# Altium schematic symbol library V2SchLib.SchLib: 46 symbols (part 2 of 3)
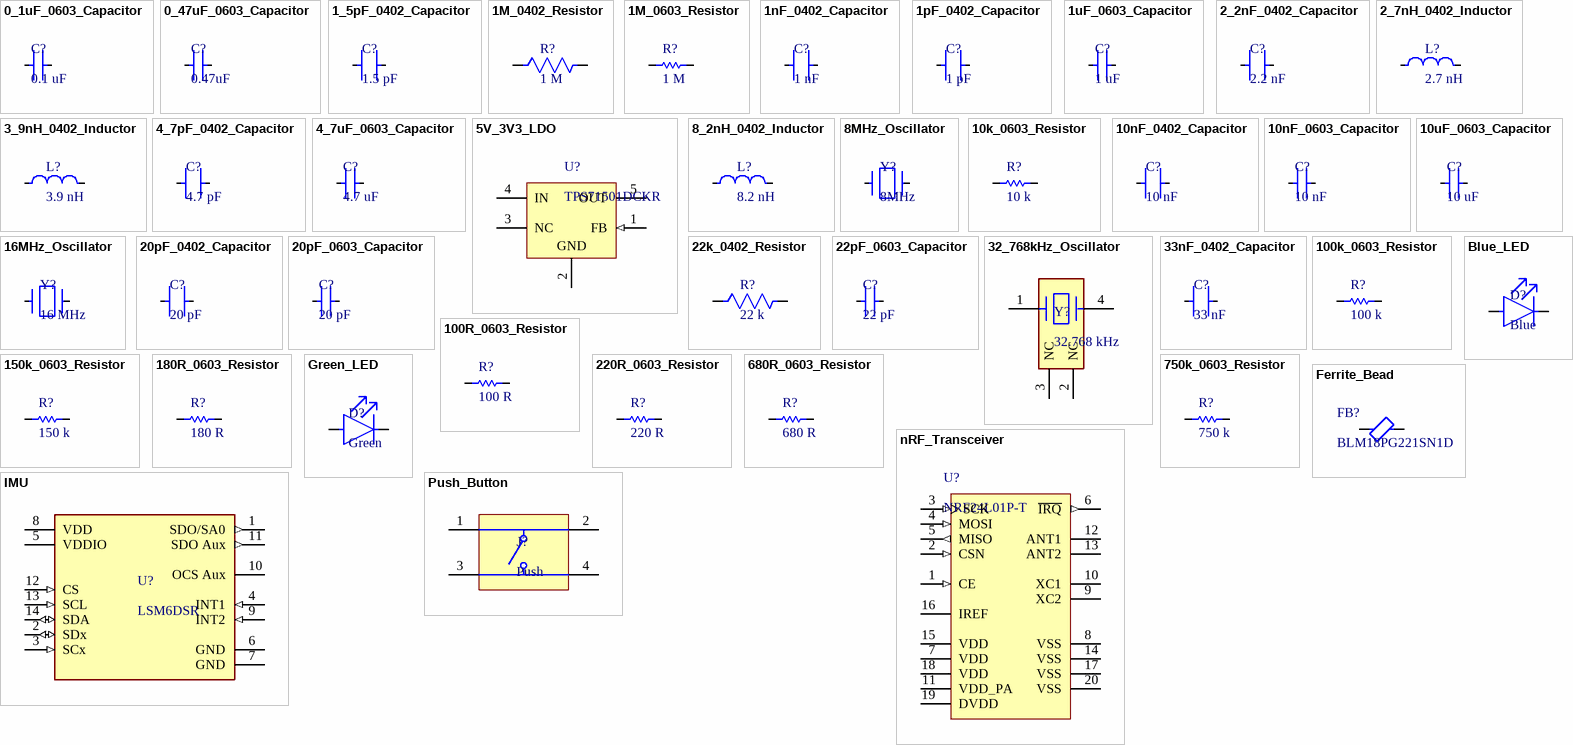
[diagram p2: symbols 0_1uF_0603_Capacitor to Push_Button]

## 16MHz_Oscillator
designator Y?, comment 16 MHz
Crystal 16MHz ±20ppm (Tol) ±30ppm (Stability) 18pF FUND 50Ohm 2-Pin Mini-CSMD T/R, ABM7-16.000MHZ-D2Y-T Abracon; Supplier: Avnet; Supplier Part Number: ABM7-16.000MHZ-D2Y; Manufacturer: Abracon; Manufacturer Part Number: ABM7-16.000MHZ-D2Y-T; RoHS: Yes; Category: Crystals; Stock: 54000; Pricing: 1000=0.385, 2000=0.3775, 4000=0.37, 6000=0.35525, 8000=0.3479, 10000=0.3336, 100000=0.2992 (USD); ComponentLink1URL: https://datasheet.ciiva.com/5788/abm7-5788054.pdf?src-supplier=Farnell; ComponentLink1Description: https://datasheet.ciiva.com/5788/abm7-5788054.pdf?src-supplier=Farnell; Supplier 1: Digikey; Supplier Part Number 1: 535-9840-1-ND
footprint 16MHz_Oscillator
pins: 1, 2

## 20pF_0402_Capacitor
designator C?, comment 20 pF
Ceramic Capacitor, Multilayer, Ceramic, 50V, 5% +Tol, 5% -Tol, C0G, 30% TC, 0.00002uF, Surface Mount, 0402, GJM1555C1H200JB01D; Manufacturer: Murata; Value: 20pF; Multilayer: Yes; Supplier: Digikey; Supplier Part Number: 490-3120-1-ND; Manufacturer Part Number: GJM1555C1H200JB01D; RoHS: Yes; Category: Ceramic Capacitors; Stock: 56145; Pricing: 1=0.17, 10=0.116, 50=0.0694, 100=0.0546, 500=0.0403, 1000=0.03337, 2500=0.03106, 5000=0.02841 (USD); Mounting Technology: Surface Mount; Pins: 2; Dielectric Material: Ceramic; Package Shape: Rectangular; Case/Package: 0402; Terminal Finish: Nickel; Min Operating Temperature: -55°C; Max Operating Temperature: 125°C; JESD-609 Code: e3; Capacitor Type: Ceramic; Tolerance  (fill in as +-): 5%; Package Style: SMTMeter; Packaging: Tape and Reel; Tolerance (fill in as +-): 5%; Rated DC Voltage (URdc): 50V; Temperature Characteristics Code: C0G; Termination: Wraparound; Length: 1mm; Width: 0.5mm; Height: 0.5mm; Reach SVHC Compliant: Yes; RoHS Compliant: Yes; ComponentLink1URL: https://datasheet.ciiva.com:443/pdfs/VipMasterIC/IC/MURE/MURE-S-A0004383799/MURE-S-A0004383921-1.pdf?src-supplier=IHS+Markit; ComponentLink1Description: https://datasheet.ciiva.com:443/pdfs/VipMasterIC/IC/MURE/MURE-S-A0004383799/MURE-S-A0004383921-1.pdf?src-supplier=IHS+Markit; ComponentLink2URL: https://datasheet.ciiva.com/165/product-165055.pdf?src-supplier=Digikey; ComponentLink2Description: https://datasheet.ciiva.com/165/product-165055.pdf?src-supplier=Digikey; ComponentLink3URL: https://datasheet.ciiva.com/29540/partnumbering-e-01-29540584.pdf?src-supplier=Digikey; ComponentLink3Description: https://datasheet.ciiva.com/29540/partnumbering-e-01-29540584.pdf?src-supplier=Digikey; ComponentLink4URL: https://datasheet.ciiva.com/29540/partnumbering-e-01-29540583.pdf?src-supplier=Digikey; ComponentLink4Description: https://datasheet.ciiva.com/29540/partnumbering-e-01-29540583.pdf?src-supplier=Digikey; Supplier 1: Digikey; Supplier Part Number 1: 490-3120-1-ND
footprint 20pF_0402_Capacitor
pins: 1, 2

## 20pF_0603_Capacitor
designator C?, comment 20 pF
Ceramic Capacitor, Multilayer, Ceramic, 50V, 5% +Tol, 5% -Tol, C0G, -/+30ppm/Cel TC, 0.00002uF, Surface Mount, 0603, CC0603JRNPO9BN200; Manufacturer: Yageo; Value: 20pF; Multilayer: Yes; Supplier: Digikey; Supplier Part Number: 311-1424-1-ND; Manufacturer Part Number: CC0603JRNPO9BN200; RoHS: Yes; Category: Ceramic Capacitors; Stock: 218320; Pricing: 1=0.1, 10=0.038, 50=0.0218, 100=0.017, 500=0.01276, 1000=0.01003 (USD); Mounting Technology: Surface Mount; Pins: 2; Dielectric Material: Ceramic; Case/Package: 0603; Terminal Finish: Nickel; Package Shape: Rectangular; Min Operating Temperature: -55°C; Max Operating Temperature: 125°C; JESD-609 Code: e3; Capacitor Type: Ceramic; Tolerance  (fill in as +-): 5%; Packaging: Tape and Reel; Tolerance (fill in as +-): 5%; Rated DC Voltage (URdc): 50V; Temperature Characteristics Code: C0G; Termination: Wraparound; Reach SVHC Compliant: Yes; RoHS Compliant: Yes; ComponentLink1URL: https://datasheet.ciiva.com:443/pdfs/VipMasterIC/IC/YAGO/YAGOS02763/YAGOS02763-1.pdf?src-supplier=IHS+Markit; ComponentLink1Description: https://datasheet.ciiva.com:443/pdfs/VipMasterIC/IC/YAGO/YAGOS02763/YAGOS02763-1.pdf?src-supplier=IHS+Markit; ComponentLink2URL: https://datasheet.ciiva.com/176/mlccorderingcode-176538.pdf?src-supplier=Digikey; ComponentLink2Description: https://datasheet.ciiva.com/176/mlccorderingcode-176538.pdf?src-supplier=Digikey; ComponentLink3URL: https://datasheet.ciiva.com/176/mlccorderingcode-176539.pdf?src-supplier=Digikey; ComponentLink3Description: https://datasheet.ciiva.com/176/mlccorderingcode-176539.pdf?src-supplier=Digikey; ComponentLink4URL: https://datasheet.ciiva.com/176/mlccorderingcode-176540.pdf?src-supplier=Digikey; ComponentLink4Description: https://datasheet.ciiva.com/176/mlccorderingcode-176540.pdf?src-supplier=Digikey; ComponentLink5URL: https://datasheet.ciiva.com/7978/1132289-7978134.pdf?src-supplier=Element14; ComponentLink5Description: https://datasheet.ciiva.com/7978/1132289-7978134.pdf?src-supplier=Element14; Supplier 1: Digikey; Supplier Part Number 1: 311-1424-1-ND
footprint 20pF_0603_Capacitor
pins: 1, 2

## 22k_0402_Resistor
designator R?, comment 22 k
Fixed Resistor, Metal Glaze/thick Film, 0.063W, 22000ohm, 50V, 5% +/-Tol, 200ppm/Cel, Surface Mount, 0402, CRCW040222K0JNED; Manufacturer: Vishay Dale; Power: 63mW; Rated Temperature: 70°C; Value: 22kR; Temperature Coefficient: 200ppm/°C; Package Height: 0.35mm; Package Length: 1mm; Package Width: 0.5mm; Reference Standard: AEC-Q200; Supplier: Digikey; Supplier Part Number: 541-22KJCT-ND; Manufacturer Part Number: CRCW040222K0JNED; RoHS: Yes; Category: Chip SMD Resistors; Stock: 10421; Pricing: 1=0.1, 10=0.024, 50=0.0152, 100=0.0127, 500=0.00866, 1000=0.00746, 5000=0.00542 (USD); Mounting Technology: Surface Mount; Pins: 2; Package Shape: Rectangular; Case/Package: 0402; Terminal Finish: Nickel; Min Operating Temperature: -55°C; Max Operating Temperature: 155°C; Tolerance: 5%; JESD-609 Code: e3; Resistor Type: FIXED RESISTOR; Construction: Chip; Package Style: SMTMeter; Packaging: Tape and Reel; Technology: METAL GLAZE/THICK FILM; Termination: Wraparound; Working Voltage: 50V; Reach SVHC Compliant: Yes; RoHS Compliant: Yes; ComponentLink1URL: https://datasheet.ciiva.com:443/pdfs/VipMasterIC/IC/VISH/VISH-S-A0007266705/VISH-S-A0007266705-1.pdf?src-supplier=IHS+Markit; ComponentLink1Description: https://datasheet.ciiva.com:443/pdfs/VipMasterIC/IC/VISH/VISH-S-A0007266705/VISH-S-A0007266705-1.pdf?src-supplier=IHS+Markit; ComponentLink2URL: https://datasheet.ciiva.com/2462/dcrcwe3-2462082.pdf?src-supplier=Digikey; ComponentLink2Description: https://datasheet.ciiva.com/2462/dcrcwe3-2462082.pdf?src-supplier=Digikey; ComponentLink3URL: https://datasheet.ciiva.com/2462/dcrcwe3-2462083.pdf?src-supplier=Digikey; ComponentLink3Description: https://datasheet.ciiva.com/2462/dcrcwe3-2462083.pdf?src-supplier=Digikey; ComponentLink4URL: https://datasheet.ciiva.com/2462/dcrcwe3-2462084.pdf?src-supplier=Digikey; ComponentLink4Description: https://datasheet.ciiva.com/2462/dcrcwe3-2462084.pdf?src-supplier=Digikey; ComponentLink5URL: https://datasheet.ciiva.com/3256/dcrcwe3-3256245.pdf?src-supplier=Avnet; ComponentLink5Description: https://datasheet.ciiva.com/3256/dcrcwe3-3256245.pdf?src-supplier=Avnet; ComponentLink6URL: https://datasheet.ciiva.com/16776/70201119-16776940.pdf?src-supplier=Allied+Electronics; ComponentLink6Description: https://datasheet.ciiva.com/16776/70201119-16776940.pdf?src-supplier=Allied+Electronics; ComponentLink7URL: https://datasheet.ciiva.com/22872/70201119-22872138.pdf?src-supplier=Allied+Electronics; ComponentLink7Description: https://datasheet.ciiva.com/22872/70201119-22872138.pdf?src-supplier=Allied+Electronics; Supplier 1: Mouser; Supplier Part Number 1: 71-CRCW0402J-22K-E3
footprint 22k_0402_Resistor
pins: 1, 2

## 22pF_0603_Capacitor
designator C?, comment 22 pF
Ceramic Capacitor, Multilayer, Ceramic, 100V, 5% +Tol, 5% -Tol, C0G, 30ppm/Cel TC, 0.000022uF, Surface Mount, 0603, GCM1885C2A220JA16D; Manufacturer: Murata; Value: 22pF; Multilayer: Yes; Reference Standard: AEC-Q200; Supplier: Digikey; Supplier Part Number: 490-4942-1-ND; Manufacturer Part Number: GCM1885C2A220JA16D; RoHS: Yes; Category: Ceramic Capacitors; Stock: 113473; Pricing: 1=0.11, 10=0.074, 50=0.0424, 100=0.0329, 500=0.02476, 1000=0.01946 (USD); Mounting Technology: Surface Mount; Pins: 2; Dielectric Material: Ceramic; Package Shape: Rectangular; Case/Package: 0603; Terminal Finish: Nickel; Min Operating Temperature: -55°C; Max Operating Temperature: 125°C; JESD-609 Code: e3; Capacitor Type: Ceramic; Tolerance  (fill in as +-): 5%; Package Style: SMTMeter; Packaging: Tape and Reel; Tolerance (fill in as +-): 5%; Rated DC Voltage (URdc): 100V; Temperature Characteristics Code: C0G; Termination: Wraparound; Length: 1.6mm; Width: 0.8mm; Height: 0.9mm; Reach SVHC Compliant: Yes; RoHS Compliant: Yes; ComponentLink1URL: https://datasheet.ciiva.com:443/pdfs/VipMasterIC/IC/MURE/MURE-S-A0004365318/MURE-S-A0004370424-1.pdf?src-supplier=IHS+Markit; ComponentLink1Description: https://datasheet.ciiva.com:443/pdfs/VipMasterIC/IC/MURE/MURE-S-A0004365318/MURE-S-A0004370424-1.pdf?src-supplier=IHS+Markit; ComponentLink2URL: https://datasheet.ciiva.com/133/product-133318.pdf?src-supplier=Digikey; ComponentLink2Description: https://datasheet.ciiva.com/133/product-133318.pdf?src-supplier=Digikey; ComponentLink3URL: https://datasheet.ciiva.com/133/product-133319.pdf?src-supplier=Digikey; ComponentLink3Description: https://datasheet.ciiva.com/133/product-133319.pdf?src-supplier=Digikey; ComponentLink4URL: https://datasheet.ciiva.com/133/product-133320.pdf?src-supplier=Digikey; ComponentLink4Description: https://datasheet.ciiva.com/133/product-133320.pdf?src-supplier=Digikey; Supplier 1: Digikey; Supplier Part Number 1: 490-4942-1-ND
footprint 22pF_0603_Capacitor
pins: 1, 2

## 32_768kHz_Oscillator
designator Y?, comment 32.768 kHz
Parallel - Fundamental Quartz Crystal, 0.032768MHz Nom, ABS25-32.768KHZ-T; Manufacturer: Abracon; Aging: 5 PPM/FIRST YEAR; Drive Level: 1uW; Frequency Tolerance: 20ppm; Load Capacitance: 12.5pF; Operating Frequency-Nom: 32.768; ESR: 50kR; Additional Feature: TAPE AND REEL; Supplier: Digikey; Supplier Part Number: 535-9166-1-ND; Manufacturer Part Number: ABS25-32.768KHZ-T; RoHS: Yes; Category: Crystals; Stock: 334703; Pricing: 1=0.5, 10=0.418, 50=0.3764, 100=0.3346, 500=0.3179, 1000=0.26771 (USD); Mounting Technology: Surface Mount; Terminal Finish: Tin; Min Operating Temperature: -40°C; Max Operating Temperature: 85°C; Crystal/Resonator Type: PARALLEL - FUNDAMENTAL; JESD-609 Code: e2; RoHS Compliant: Yes; Reach SVHC Compliant: No; ComponentLink1URL: https://datasheet.ciiva.com:443/pdfs/VipMasterIC/IC/ABRC/ABRC-S-A0006623177/ABRC-S-A0006623177-1.pdf?src-supplier=IHS+Markit; ComponentLink1Description: https://datasheet.ciiva.com:443/pdfs/VipMasterIC/IC/ABRC/ABRC-S-A0006623177/ABRC-S-A0006623177-1.pdf?src-supplier=IHS+Markit; Supplier 1: Digikey; Supplier Part Number 1: 535-9166-1-ND
footprint 32_768MHz_Oscillator
pins: 1, 2 NC, 3 NC, 4

## 33nF_0402_Capacitor
designator C?, comment 33 nF
Ceramic Capacitor, Multilayer, Ceramic, 25V, 10% +Tol, 10% -Tol, X7R, 15% TC, 0.033uF, Surface Mount, 0402, GRM155R71E333KA88D; Manufacturer: Murata; Value: 33nF; Multilayer: Yes; Supplier: Digikey; Supplier Part Number: 490-3253-1-ND; Manufacturer Part Number: GRM155R71E333KA88D; RoHS: Yes; Category: Ceramic Capacitors; Stock: 395671; Pricing: 1=0.1, 10=0.059, 50=0.034, 100=0.0263, 500=0.01982, 1000=0.01558, 2500=0.01416, 5000=0.01303 (USD); Mounting Technology: Surface Mount; Pins: 2; Dielectric Material: Ceramic; Package Shape: Rectangular; Case/Package: 0402; Terminal Finish: Nickel; Min Operating Temperature: -55°C; Max Operating Temperature: 125°C; Capacitor Type: Ceramic; JESD-609 Code: e3; Tolerance  (fill in as +-): 10%; Package Style: SMTMeter; Packaging: Tape and Reel; Tolerance (fill in as +-): 10%; Rated DC Voltage (URdc): 25V; Temperature Characteristics Code: X7R; Termination: Wraparound; Length: 1mm; Width: 0.5mm; Height: 0.5mm; Reach SVHC Compliant: Yes; RoHS Compliant: Yes; ComponentLink1URL: https://datasheet.ciiva.com:443/pdfs/VipMasterIC/IC/MURE/MURE-S-A0004362469/MURE-S-A0004364704-1.pdf?src-supplier=IHS+Markit; ComponentLink1Description: https://datasheet.ciiva.com:443/pdfs/VipMasterIC/IC/MURE/MURE-S-A0004362469/MURE-S-A0004364704-1.pdf?src-supplier=IHS+Markit; ComponentLink2URL: https://datasheet.ciiva.com/131/product-131792.pdf?src-supplier=Digikey; ComponentLink2Description: https://datasheet.ciiva.com/131/product-131792.pdf?src-supplier=Digikey; ComponentLink3URL: https://datasheet.ciiva.com/18184/getdatasheetpartid-153135-18184704.pdf?src-supplier=Verical; ComponentLink3Description: https://datasheet.ciiva.com/18184/getdatasheetpartid-153135-18184704.pdf?src-supplier=Verical; ComponentLink4URL: https://datasheet.ciiva.com/7937/608985-7937622.pdf?src-supplier=Element14; ComponentLink4Description: https://datasheet.ciiva.com/7937/608985-7937622.pdf?src-supplier=Element14; ComponentLink5URL: https://datasheet.ciiva.com/131/grm155r71e333ka88-01-131793.pdf?src-supplier=Digikey; ComponentLink5Description: https://datasheet.ciiva.com/131/grm155r71e333ka88-01-131793.pdf?src-supplier=Digikey; ComponentLink6URL: https://datasheet.ciiva.com/131/grm155r71e333ka88-01-131794.pdf?src-supplier=Digikey; ComponentLink6Description: https://datasheet.ciiva.com/131/grm155r71e333ka88-01-131794.pdf?src-supplier=Digikey; ComponentLink7URL: https://datasheet.ciiva.com/2989/product-2989391.pdf?src-supplier=Avnet; ComponentLink7Description: https://datasheet.ciiva.com/2989/product-2989391.pdf?src-supplier=Avnet; ComponentLink8URL: https://datasheet.ciiva.com/2989/product-2989392.pdf?src-supplier=Avnet; ComponentLink8Description: https://datasheet.ciiva.com/2989/product-2989392.pdf?src-supplier=Avnet; ComponentLink9URL: https://datasheet.ciiva.com/14103/grmseries-highdielectrictype-eng-14103753.pdf?src-supplier=Distrelec; ComponentLink9Description: https://datasheet.ciiva.com/14103/grmseries-highdielectrictype-eng-14103753.pdf?src-supplier=Distrelec; ComponentLink10URL: https://datasheet.ciiva.com/16208/product-16208394.pdf?src-supplier=Future+Electronics; ComponentLink10Description: https://datasheet.ciiva.com/16208/product-16208394.pdf?src-supplier=Future+Electronics; Supplier 1: Digikey; Supplier Part Number 1: 490-3253-1-ND
footprint 33nF_0402_Capacitor (Chip Capacitor, 2-Leads, Body 1.00x0.50mm, IPC High Density)
pins: 1, 2

## 100k_0603_Resistor
designator R?, comment 100 k
Fixed Resistor, Metal Glaze/thick Film, 0.1W, 100000ohm, 75V, 1% +/-Tol, 100ppm/Cel, Surface Mount, 0603, AC0603FR-07100KL; Manufacturer: Yageo; Power: 100mW; Rated Temperature: 70°C; Value: 100kR; Temperature Coefficient: 100ppm/°C; Additional Feature: LASER TRIMMABLE; Package Height: 0.45mm; Package Length: 1.6mm; Package Width: 0.8mm; Reference Standard: AEC-Q200; Supplier: Digikey; Supplier Part Number: 311-100KLDCT-ND; Manufacturer Part Number: AC0603FR-07100KL; RoHS: Yes; Category: Chip SMD Resistors; Stock: 796898; Pricing: 1=0.1, 10=0.021, 50=0.013, 100=0.0108, 500=0.00734, 1000=0.00633 (USD); Mounting Technology: Surface Mount; Pins: 2; Case/Package: 0603; Terminal Finish: Nickel; Package Shape: Rectangular; Min Operating Temperature: -55°C; Max Operating Temperature: 155°C; Tolerance: 1%; JESD-609 Code: e3; Resistor Type: FIXED RESISTOR; Construction: Chip; Package Style: SMTMeter; Packaging: Tape and Reel; Technology: METAL GLAZE/THICK FILM; Termination: Wraparound; Working Voltage: 75V; Reach SVHC Compliant: Yes; RoHS Compliant: Yes; ComponentLink1URL: https://datasheet.ciiva.com:443/pdfs/VipMasterIC/IC/YAGO/YAGO-S-A0003597364/YAGO-S-A0003597364-1.pdf?src-supplier=IHS+Markit; ComponentLink1Description: https://datasheet.ciiva.com:443/pdfs/VipMasterIC/IC/YAGO/YAGO-S-A0003597364/YAGO-S-A0003597364-1.pdf?src-supplier=IHS+Markit; ComponentLink2URL: https://datasheet.ciiva.com/26862/getdatasheetpartid-715379-26862460.pdf?src-supplier=Verical; ComponentLink2Description: https://datasheet.ciiva.com/26862/getdatasheetpartid-715379-26862460.pdf?src-supplier=Verical; ComponentLink3URL: https://datasheet.ciiva.com/5562/pyu-ac-51-rohs-l-2-5562536.pdf?src-supplier=Mouser; ComponentLink3Description: https://datasheet.ciiva.com/5562/pyu-ac-51-rohs-l-2-5562536.pdf?src-supplier=Mouser; Supplier 1: Digikey; Supplier Part Number 1: 311-100KLDCT-ND
footprint 100k_0603_Resistor
pins: 1, 2

## 100R_0603_Resistor
designator R?, comment 100 R
Fixed Resistor, Metal Glaze/thick Film, 0.1W, 100ohm, 75V, 1% +/-Tol, 100ppm/Cel, Surface Mount, 0603; Manufacturer: Vishay Dale; Manufacturer Part Number: CRCW0603100RFKEA; Power: 100mW; Rated Temperature: 70°C; Value: 100R; Temperature Coefficient: 100ppm/°C; Package Height: 0.45mm; Package Length: 1.55mm; Package Width: 0.85mm; Reference Standard: AEC-Q200; Supplier: Digikey; Supplier Part Number: 541-100HCT-ND; RoHS: Yes; Category: Chip SMD Resistors; Stock: 468740; Pricing: 1=0.1, 10=0.026, 50=0.0166, 100=0.014, 500=0.00954, 1000=0.00824 (USD); Mounting Technology: Surface Mount; Pins: 2; Case/Package: 0603; Terminal Finish: Nickel; Package Shape: Rectangular; Min Operating Temperature: -55°C; Max Operating Temperature: 155°C; Tolerance: 1%; Resistor Type: FIXED RESISTOR; Packaging: Tape and Reel; Technology: METAL GLAZE/THICK FILM; Termination: Wraparound; Working Voltage: 75V; JESD-609 Code: e3; Construction: Chip; Package Style: SMTMeter; Reach SVHC Compliant: Yes; RoHS Compliant: Yes; ComponentLink1URL: https://datasheet.ciiva.com:443/pdfs/VipMasterIC/IC/VISH/VISH-S-A0007266705/VISH-S-A0007266705-1.pdf?src-supplier=IHS+Markit; ComponentLink1Description: https://datasheet.ciiva.com:443/pdfs/VipMasterIC/IC/VISH/VISH-S-A0007266705/VISH-S-A0007266705-1.pdf?src-supplier=IHS+Markit; ComponentLink2URL: https://datasheet.ciiva.com/2465/dcrcwe3-2465543.pdf?src-supplier=Digikey; ComponentLink2Description: https://datasheet.ciiva.com/2465/dcrcwe3-2465543.pdf?src-supplier=Digikey; ComponentLink3URL: https://datasheet.ciiva.com/2465/dcrcwe3-2465544.pdf?src-supplier=Digikey; ComponentLink3Description: https://datasheet.ciiva.com/2465/dcrcwe3-2465544.pdf?src-supplier=Digikey; ComponentLink4URL: https://datasheet.ciiva.com/2465/dcrcwe3-2465545.pdf?src-supplier=Digikey; ComponentLink4Description: https://datasheet.ciiva.com/2465/dcrcwe3-2465545.pdf?src-supplier=Digikey; ComponentLink5URL: https://datasheet.ciiva.com/26316/fld-crcw-e3-data-en-26316566.pdf?src-supplier=Distrelec; ComponentLink5Description: https://datasheet.ciiva.com/26316/fld-crcw-e3-data-en-26316566.pdf?src-supplier=Distrelec; ComponentLink6URL: https://datasheet.ciiva.com/5550/dcrcwe3-109170-5550286.pdf?src-supplier=Mouser; ComponentLink6Description: https://datasheet.ciiva.com/5550/dcrcwe3-109170-5550286.pdf?src-supplier=Mouser; ComponentLink7URL: https://datasheet.ciiva.com/16721/70201119-16721486.pdf?src-supplier=Allied+Electronics; ComponentLink7Description: https://datasheet.ciiva.com/16721/70201119-16721486.pdf?src-supplier=Allied+Electronics; ComponentLink8URL: https://datasheet.ciiva.com/16787/70201119-16787964.pdf?src-supplier=Allied+Electronics; ComponentLink8Description: https://datasheet.ciiva.com/16787/70201119-16787964.pdf?src-supplier=Allied+Electronics; ComponentLink9URL: https://datasheet.ciiva.com/22666/1720486-22666207.pdf?src-supplier=Element14; ComponentLink9Description: https://datasheet.ciiva.com/22666/1720486-22666207.pdf?src-supplier=Element14; ComponentLink10URL: https://datasheet.ciiva.com/22673/1697337-22673066.pdf?src-supplier=Element14; ComponentLink10Description: https://datasheet.ciiva.com/22673/1697337-22673066.pdf?src-supplier=Element14; ComponentLink11URL: https://datasheet.ciiva.com/16199/dcrcwe3-16199102.pdf?src-supplier=Future+Electronics; ComponentLink11Description: https://datasheet.ciiva.com/16199/dcrcwe3-16199102.pdf?src-supplier=Future+Electronics; Supplier 1: Digikey; Supplier Part Number 1: 541-100HCT-ND; ComponentLink12URL: https://datasheet.ciiva.com:443/pdfs/VipMasterIC/IC/PANA/PANA-S-A0009648211/PANA-S-A0009648211-1.pdf?src-supplier=IHS+Markit; ComponentLink12Description: https://datasheet.ciiva.com:443/pdfs/VipMasterIC/IC/PANA/PANA-S-A0009648211/PANA-S-A0009648211-1.pdf?src-supplier=IHS+Markit; ComponentLink13URL: https://datasheet.ciiva.com/11810/0900766b812cb812-11810638.pdf?src-supplier=Rs; ComponentLink13Description: https://datasheet.ciiva.com/11810/0900766b812cb812-11810638.pdf?src-supplier=Rs; ComponentLink14URL: https://datasheet.ciiva.com/6138/1790600-6138936.pdf?src-supplier=Farnell; ComponentLink14Description: https://datasheet.ciiva.com/6138/1790600-6138936.pdf?src-supplier=Farnell; ComponentLink15URL: https://datasheet.ciiva.com/9184/aoa0000ce4-9184543.pdf?src-supplier=Avnet; ComponentLink15Description: https://datasheet.ciiva.com/9184/aoa0000ce4-9184543.pdf?src-supplier=Avnet; ComponentLink16URL: https://datasheet.ciiva.com/48426/erjp-series-eng-tds-48426798.pdf?src-supplier=Distrelec; ComponentLink16Description: https://datasheet.ciiva.com/48426/erjp-series-eng-tds-48426798.pdf?src-supplier=Distrelec; ComponentLink17URL: https://datasheet.ciiva.com/24066/aoa0000ce4-64075-24066487.pdf?src-supplier=Mouser; ComponentLink17Description: https://datasheet.ciiva.com/24066/aoa0000ce4-64075-24066487.pdf?src-supplier=Mouser; ComponentLink18URL: https://datasheet.ciiva.com/7886/1790600-7886853.pdf?src-supplier=Element14; ComponentLink18Description: https://datasheet.ciiva.com/7886/1790600-7886853.pdf?src-supplier=Element14; ComponentLink19URL: https://datasheet.ciiva.com/7886/1790600-7886854.pdf?src-supplier=Element14; ComponentLink19Description: https://datasheet.ciiva.com/7886/1790600-7886854.pdf?src-supplier=Element14
footprint 100R_0603_Resistor (Chip Resistor, 2-Leads, Body 1.65x0.95mm, IPC High Density)
pins: 1, 2

## 150k_0603_Resistor
designator R?, comment 150 k
Fixed Resistor, Metal Glaze/thick Film, 0.1W, 150000ohm, 75V, 1% +/-Tol, 100ppm/Cel, Surface Mount, 0603, RC0603FR-07150KL; Manufacturer: Yageo; Power: 100mW; Rated Temperature: 70°C; Value: 150kR; Temperature Coefficient: 100ppm/°C; Additional Feature: LASER TRIMMABLE; Package Height: 0.45mm; Package Length: 1.6mm; Package Width: 0.8mm; Supplier: Digikey; Supplier Part Number: 311-150KHRCT-ND; Manufacturer Part Number: RC0603FR-07150KL; RoHS: Yes; Category: Chip SMD Resistors; Stock: 109674; Pricing: 1=0.1, 10=0.019, 50=0.0112, 100=0.0093, 500=0.00622, 1000=0.00532 (USD); Mounting Technology: Surface Mount; Pins: 2; Case/Package: 0603; Terminal Finish: Nickel; Package Shape: Rectangular; Min Operating Temperature: -55°C; Max Operating Temperature: 155°C; Tolerance: 1%; JESD-609 Code: e3; Resistor Type: FIXED RESISTOR; Packaging: Tape and Reel; Technology: METAL GLAZE/THICK FILM; Termination: Wraparound; Working Voltage: 75V; Construction: Chip; Package Style: SMTMeter; Reach SVHC Compliant: Yes; RoHS Compliant: Yes; ComponentLink1URL: https://datasheet.ciiva.com:443/pdfs/VipMasterIC/IC/YAGO/YAGO-S-A0008145938/YAGO-S-A0008145938-1.pdf?src-supplier=IHS+Markit; ComponentLink1Description: https://datasheet.ciiva.com:443/pdfs/VipMasterIC/IC/YAGO/YAGO-S-A0008145938/YAGO-S-A0008145938-1.pdf?src-supplier=IHS+Markit; ComponentLink2URL: https://datasheet.ciiva.com/46412/443971-46412843.pdf?src-supplier=Element14; ComponentLink2Description: https://datasheet.ciiva.com/46412/443971-46412843.pdf?src-supplier=Element14; ComponentLink3URL: https://datasheet.ciiva.com/46440/1868787-46440892.pdf?src-supplier=Element14; ComponentLink3Description: https://datasheet.ciiva.com/46440/1868787-46440892.pdf?src-supplier=Element14; ComponentLink4URL: https://datasheet.ciiva.com/7746/443971-7746254.pdf?src-supplier=Element14; ComponentLink4Description: https://datasheet.ciiva.com/7746/443971-7746254.pdf?src-supplier=Element14; ComponentLink5URL: https://datasheet.ciiva.com/7746/443971-7746255.pdf?src-supplier=Element14; ComponentLink5Description: https://datasheet.ciiva.com/7746/443971-7746255.pdf?src-supplier=Element14; ComponentLink6URL: https://datasheet.ciiva.com/2454/pyu-r-int-thick-7-2454078.pdf?src-supplier=Digikey; ComponentLink6Description: https://datasheet.ciiva.com/2454/pyu-r-int-thick-7-2454078.pdf?src-supplier=Digikey; ComponentLink7URL: https://datasheet.ciiva.com/2454/pyu-r-int-thick-7-2454079.pdf?src-supplier=Digikey; ComponentLink7Description: https://datasheet.ciiva.com/2454/pyu-r-int-thick-7-2454079.pdf?src-supplier=Digikey; ComponentLink8URL: https://datasheet.ciiva.com/2454/pyu-r-int-thick-7-2454080.pdf?src-supplier=Digikey; ComponentLink8Description: https://datasheet.ciiva.com/2454/pyu-r-int-thick-7-2454080.pdf?src-supplier=Digikey; ComponentLink9URL: https://datasheet.ciiva.com/15189/getdatasheetpartid-326478-15189611.pdf?src-supplier=Verical; ComponentLink9Description: https://datasheet.ciiva.com/15189/getdatasheetpartid-326478-15189611.pdf?src-supplier=Verical; Supplier 1: Digikey; Supplier Part Number 1: 311-150KHRCT-ND
footprint 150k_0603_Resistor
pins: 1, 2

## 180R_0603_Resistor
designator R?, comment 180 R
Fixed Resistor, Metal Glaze/thick Film, 0.1W, 180ohm, 75V, 1% +/-Tol, 100ppm/Cel, Surface Mount, 0603, ERJ-3EKF1800V; Manufacturer: Panasonic; Power: 100mW; Rated Temperature: 70°C; Value: 180R; Temperature Coefficient: 100ppm/°C; Package Height: 0.45mm; Package Length: 1.6mm; Package Width: 0.8mm; Reference Standard: AEC-Q200; Supplier: Digikey; Supplier Part Number: P180HCT-ND; Manufacturer Part Number: ERJ-3EKF1800V; RoHS: Yes; Category: Chip SMD Resistors; Stock: 114631; Pricing: 1=0.1, 10=0.03, 50=0.0194, 100=0.0163, 500=0.01132, 1000=0.0098 (USD); Mounting Technology: Surface Mount; Pins: 2; Package Shape: Rectangular; Case/Package: 0603; Terminal Finish: Nickel; Min Operating Temperature: -55°C; Max Operating Temperature: 155°C; Tolerance: 1%; JESD-609 Code: e3; Resistor Type: FIXED RESISTOR; Construction: Rectangular; Package Style: SMTMeter; Packaging: Tape and Reel; Technology: METAL GLAZE/THICK FILM; Termination: Wraparound; Working Voltage: 75V; Reach SVHC Compliant: Yes; RoHS Compliant: Yes; ComponentLink1URL: https://datasheet.ciiva.com:443/pdfs/VipMasterIC/IC/PANA/PANA-S-A0009889626/PANA-S-A0009889626-1.pdf?src-supplier=IHS+Markit; ComponentLink1Description: https://datasheet.ciiva.com:443/pdfs/VipMasterIC/IC/PANA/PANA-S-A0009889626/PANA-S-A0009889626-1.pdf?src-supplier=IHS+Markit; ComponentLink2URL: https://datasheet.ciiva.com/46444/1678782-46444812.pdf?src-supplier=Element14; ComponentLink2Description: https://datasheet.ciiva.com/46444/1678782-46444812.pdf?src-supplier=Element14; ComponentLink3URL: https://datasheet.ciiva.com/7909/aoa0000ce2-7909194.pdf?src-supplier=Element14; ComponentLink3Description: https://datasheet.ciiva.com/7909/aoa0000ce2-7909194.pdf?src-supplier=Element14; ComponentLink4URL: https://datasheet.ciiva.com/7909/426256-7909547.pdf?src-supplier=Element14; ComponentLink4Description: https://datasheet.ciiva.com/7909/426256-7909547.pdf?src-supplier=Element14; ComponentLink5URL: https://datasheet.ciiva.com/9184/aoa0000ce2-9184887.pdf?src-supplier=Avnet; ComponentLink5Description: https://datasheet.ciiva.com/9184/aoa0000ce2-9184887.pdf?src-supplier=Avnet; ComponentLink6URL: https://datasheet.ciiva.com/24159/aoa0000ce2-24159085.pdf?src-supplier=Mouser; ComponentLink6Description: https://datasheet.ciiva.com/24159/aoa0000ce2-24159085.pdf?src-supplier=Mouser; ComponentLink7URL: https://datasheet.ciiva.com/30264/aoa0000ce2-30264058.pdf?src-supplier=Onlinecomponents.com; ComponentLink7Description: https://datasheet.ciiva.com/30264/aoa0000ce2-30264058.pdf?src-supplier=Onlinecomponents.com; Supplier 1: Digikey; Supplier Part Number 1: P180HCT-ND
footprint 180R_0603_Resistor
pins: 1, 2

## 220R_0603_Resistor
designator R?, comment 220 R
Fixed Resistor, Metal Glaze/thick Film, 0.1W, 220ohm, 75V, 1% +/-Tol, 100ppm/Cel, Surface Mount, 0603, ERJ-3EKF2200V; Manufacturer: Panasonic; Power: 100mW; Rated Temperature: 70°C; Value: 220R; Temperature Coefficient: 100ppm/°C; Package Height: 0.45mm; Package Length: 1.6mm; Package Width: 0.8mm; Reference Standard: AEC-Q200; Supplier: Digikey; Supplier Part Number: P220HCT-ND; Manufacturer Part Number: ERJ-3EKF2200V; RoHS: Yes; Category: Chip SMD Resistors; Stock: 244259; Pricing: 1=0.1, 10=0.03, 50=0.0194, 100=0.0163, 500=0.01132, 1000=0.0098 (USD); Mounting Technology: Surface Mount; Pins: 2; Package Shape: Rectangular; Case/Package: 0603; Terminal Finish: Nickel; Min Operating Temperature: -55°C; Max Operating Temperature: 155°C; Tolerance: 1%; JESD-609 Code: e3; Resistor Type: FIXED RESISTOR; Construction: Rectangular; Package Style: SMTMeter; Packaging: Tape and Reel; Technology: METAL GLAZE/THICK FILM; Termination: Wraparound; Working Voltage: 75V; Reach SVHC Compliant: Yes; RoHS Compliant: Yes; ComponentLink1URL: https://datasheet.ciiva.com:443/pdfs/VipMasterIC/IC/PANA/PANA-S-A0009889626/PANA-S-A0009889626-1.pdf?src-supplier=IHS+Markit; ComponentLink1Description: https://datasheet.ciiva.com:443/pdfs/VipMasterIC/IC/PANA/PANA-S-A0009889626/PANA-S-A0009889626-1.pdf?src-supplier=IHS+Markit; ComponentLink2URL: https://datasheet.ciiva.com/6138/aoa0000ce2-6138702.pdf?src-supplier=Farnell; ComponentLink2Description: https://datasheet.ciiva.com/6138/aoa0000ce2-6138702.pdf?src-supplier=Farnell; ComponentLink3URL: https://datasheet.ciiva.com/9184/aoa0000ce2-9184299.pdf?src-supplier=Avnet; ComponentLink3Description: https://datasheet.ciiva.com/9184/aoa0000ce2-9184299.pdf?src-supplier=Avnet; ComponentLink4URL: https://datasheet.ciiva.com/24161/aoa0000ce2-24161898.pdf?src-supplier=Mouser; ComponentLink4Description: https://datasheet.ciiva.com/24161/aoa0000ce2-24161898.pdf?src-supplier=Mouser; ComponentLink5URL: https://datasheet.ciiva.com/28568/1678782-28568854.pdf?src-supplier=Element14; ComponentLink5Description: https://datasheet.ciiva.com/28568/1678782-28568854.pdf?src-supplier=Element14; ComponentLink6URL: https://datasheet.ciiva.com/46372/1678782-46372844.pdf?src-supplier=Element14; ComponentLink6Description: https://datasheet.ciiva.com/46372/1678782-46372844.pdf?src-supplier=Element14; ComponentLink7URL: https://datasheet.ciiva.com/46372/1678782-46372845.pdf?src-supplier=Element14; ComponentLink7Description: https://datasheet.ciiva.com/46372/1678782-46372845.pdf?src-supplier=Element14; ComponentLink8URL: https://datasheet.ciiva.com/7886/aoa0000ce2-7886727.pdf?src-supplier=Element14; ComponentLink8Description: https://datasheet.ciiva.com/7886/aoa0000ce2-7886727.pdf?src-supplier=Element14; ComponentLink9URL: https://datasheet.ciiva.com/16773/70260748-16773054.pdf?src-supplier=Allied+Electronics; ComponentLink9Description: https://datasheet.ciiva.com/16773/70260748-16773054.pdf?src-supplier=Allied+Electronics; ComponentLink10URL: https://datasheet.ciiva.com/16784/70260748-16784374.pdf?src-supplier=Allied+Electronics; ComponentLink10Description: https://datasheet.ciiva.com/16784/70260748-16784374.pdf?src-supplier=Allied+Electronics; Supplier 1: Digikey; Supplier Part Number 1: P220HCT-ND
footprint 220R_0603_Resistor (Chip Resistor, 2-Leads, Body 1.75x0.95mm, IPC High Density)
pins: 1, 2

## 680R_0603_Resistor
designator R?, comment 680 R
Fixed Resistor, Metal Glaze/thick Film, 0.1W, 680ohm, 75V, 1% +/-Tol, 100ppm/Cel, Surface Mount, 0603, ERJ-3EKF6800V Panasonic; Power: 100mW; Rated Temperature: 70°C; Value: 680R; Temperature Coefficient: 100ppm/°C; Package Height: 0.45mm; Package Length: 1.6mm; Package Width: 0.8mm; Reference Standard: AEC-Q200; Supplier: Digikey; Supplier Part Number: P680HCT-ND; Manufacturer: Panasonic; Manufacturer Part Number: ERJ-3EKF6800V; RoHS: Yes; Category: Chip SMD Resistors; Stock: 186007; Pricing: 1=0.1, 10=0.03, 50=0.0194, 100=0.0163, 500=0.01132, 1000=0.0098 (USD); Mounting Technology: Surface Mount; Pins: 2; Package Shape: Rectangular; Case/Package: 0603; Terminal Finish: Nickel; Min Operating Temperature: -55°C; Max Operating Temperature: 155°C; Tolerance: 1%; JESD-609 Code: e3; Resistor Type: FIXED RESISTOR; Construction: Rectangular; Package Style: SMTMeter; Packaging: Tape and Reel; Technology: METAL GLAZE/THICK FILM; Termination: Wraparound; Working Voltage: 75V; Reach SVHC Compliant: Yes; RoHS Compliant: Yes; ComponentLink1URL: https://datasheet.ciiva.com:443/pdfs/VipMasterIC/IC/PANA/PANA-S-A0009889626/PANA-S-A0009889626-1.pdf?src-supplier=IHS+Markit; ComponentLink1Description: https://datasheet.ciiva.com:443/pdfs/VipMasterIC/IC/PANA/PANA-S-A0009889626/PANA-S-A0009889626-1.pdf?src-supplier=IHS+Markit; ComponentLink2URL: https://datasheet.ciiva.com/5860/aoa0000ce2-5860666.pdf?src-supplier=Farnell; ComponentLink2Description: https://datasheet.ciiva.com/5860/aoa0000ce2-5860666.pdf?src-supplier=Farnell; ComponentLink3URL: https://datasheet.ciiva.com/9180/aoa0000ce2-9180426.pdf?src-supplier=Avnet; ComponentLink3Description: https://datasheet.ciiva.com/9180/aoa0000ce2-9180426.pdf?src-supplier=Avnet; ComponentLink4URL: https://datasheet.ciiva.com/9117/aoa0000ce2-9117115.pdf?src-supplier=Avnet; ComponentLink4Description: https://datasheet.ciiva.com/9117/aoa0000ce2-9117115.pdf?src-supplier=Avnet; ComponentLink5URL: https://datasheet.ciiva.com/24027/aoa0000ce2-24027373.pdf?src-supplier=Mouser; ComponentLink5Description: https://datasheet.ciiva.com/24027/aoa0000ce2-24027373.pdf?src-supplier=Mouser; ComponentLink6URL: https://datasheet.ciiva.com/16769/70260748-16769276.pdf?src-supplier=Allied+Electronics; ComponentLink6Description: https://datasheet.ciiva.com/16769/70260748-16769276.pdf?src-supplier=Allied+Electronics; ComponentLink7URL: https://datasheet.ciiva.com/22684/1678782-22684792.pdf?src-supplier=Element14; ComponentLink7Description: https://datasheet.ciiva.com/22684/1678782-22684792.pdf?src-supplier=Element14; ComponentLink8URL: https://datasheet.ciiva.com/46373/1678782-46373895.pdf?src-supplier=Element14; ComponentLink8Description: https://datasheet.ciiva.com/46373/1678782-46373895.pdf?src-supplier=Element14; ComponentLink9URL: https://datasheet.ciiva.com/46373/1678782-46373896.pdf?src-supplier=Element14; ComponentLink9Description: https://datasheet.ciiva.com/46373/1678782-46373896.pdf?src-supplier=Element14; ComponentLink10URL: https://datasheet.ciiva.com/30121/aoa0000ce2-30121175.pdf?src-supplier=Onlinecomponents.com; ComponentLink10Description: https://datasheet.ciiva.com/30121/aoa0000ce2-30121175.pdf?src-supplier=Onlinecomponents.com; ComponentLink11URL: https://datasheet.ciiva.com/22706/1678782-22706927.pdf?src-supplier=Element14; ComponentLink11Description: https://datasheet.ciiva.com/22706/1678782-22706927.pdf?src-supplier=Element14; ComponentLink12URL: https://datasheet.ciiva.com/7944/aoa0000ce2-7944621.pdf?src-supplier=Element14; ComponentLink12Description: https://datasheet.ciiva.com/7944/aoa0000ce2-7944621.pdf?src-supplier=Element14; Supplier 1: Digikey; Supplier Part Number 1: P680HCT-ND
footprint 680R_0603_Resistor
pins: 1, 2

## 750k_0603_Resistor
designator R?, comment 750 k
Fixed Resistor, Metal Glaze/thick Film, 0.1W, 750000ohm, 75V, 1% +/-Tol, 100ppm/Cel, Surface Mount, 0603, RC0603FR-07750KL; Manufacturer: Yageo; Power: 100mW; Value: 750kR; Temperature Coefficient: 100ppm/°C; Rated Temperature: 70°C; Additional Feature: LASER TRIMMABLE; Package Height: 0.45mm; Package Length: 1.6mm; Package Width: 0.8mm; Supplier: Digikey; Supplier Part Number: 311-750KHRCT-ND; Manufacturer Part Number: RC0603FR-07750KL; RoHS: Yes; Category: Chip SMD Resistors; Stock: 269456; Pricing: 1=0.1, 10=0.019, 50=0.0112, 100=0.0093, 500=0.00622, 1000=0.00532 (USD); Mounting Technology: Surface Mount; Pins: 2; Package Shape: Rectangular; Case/Package: 0603; Terminal Finish: Nickel; Min Operating Temperature: -55°C; Max Operating Temperature: 155°C; Tolerance: 1%; Resistor Type: FIXED RESISTOR; Construction: Chip; Package Style: SMTMeter; Packaging: Tape and Reel; Technology: METAL GLAZE/THICK FILM; Working Voltage: 75V; JESD-609 Code: e3; Termination: Wraparound; Reach SVHC Compliant: Yes; RoHS Compliant: Yes; ComponentLink1URL: https://datasheet.ciiva.com:443/pdfs/VipMasterIC/IC/YAGO/YAGO-S-A0008145938/YAGO-S-A0008145938-1.pdf?src-supplier=IHS+Markit; ComponentLink1Description: https://datasheet.ciiva.com:443/pdfs/VipMasterIC/IC/YAGO/YAGO-S-A0008145938/YAGO-S-A0008145938-1.pdf?src-supplier=IHS+Markit; ComponentLink2URL: https://datasheet.ciiva.com/15189/getdatasheetpartid-326522-15189814.pdf?src-supplier=Verical; ComponentLink2Description: https://datasheet.ciiva.com/15189/getdatasheetpartid-326522-15189814.pdf?src-supplier=Verical; ComponentLink3URL: https://datasheet.ciiva.com/2454/pyu-r-int-thick-7-2454339.pdf?src-supplier=Digikey; ComponentLink3Description: https://datasheet.ciiva.com/2454/pyu-r-int-thick-7-2454339.pdf?src-supplier=Digikey; ComponentLink4URL: https://datasheet.ciiva.com/2454/pyu-r-int-thick-7-2454340.pdf?src-supplier=Digikey; ComponentLink4Description: https://datasheet.ciiva.com/2454/pyu-r-int-thick-7-2454340.pdf?src-supplier=Digikey; ComponentLink5URL: https://datasheet.ciiva.com/2454/pyu-r-int-thick-7-2454341.pdf?src-supplier=Digikey; ComponentLink5Description: https://datasheet.ciiva.com/2454/pyu-r-int-thick-7-2454341.pdf?src-supplier=Digikey; Supplier 1: Digikey; Supplier Part Number 1: 311-750KHRCT-ND
footprint 750k_0603_Resistor (Chip Resistor, 2-Leads, Body 1.60x0.80mm, IPC High Density)
pins: 1, 2

## Blue_LED
designator D?, comment Blue
Single Color LED, Ultra Bright Blue, Water Clear, 1.1mm, LTST-C191TBKT; Manufacturer: Vishay Lite-On; Shape: Rectangular; Forward Current: 20mA; Luminous Intensity-Nom: 104mcd; Channels: 1; Viewing Angle: 130°; Forward Voltage: 3.8V; Reverse Voltage-Max: 5V; Luminous Intensity-Min: 130cd; Overall Height: 0.55mm; Supplier: Digikey; Supplier Part Number: 160-1647-1-ND; Manufacturer Part Number: LTST-C191TBKT; RoHS: Yes; Category: LEDs; Stock: 182377; Pricing: 1=0.34, 10=0.265, 100=0.119, 500=0.10746, 1000=0.08827, 2000=0.07676 (USD); Mounting Technology: Surface Mount; Pins: 2; Color: Blue; Color@wavelength: Blue; Terminal Finish: Tin; Min Operating Temperature: -20°C; Max Operating Temperature: 80°C; Optoelectronic Device Type: SINGLE COLOR LED; Packaging: Tape and Reel; JESD-609 Code: e3; Lens Style: WATER CLEAR; Size: 1.1mm; Terminal Pitch: 1.5mm; Reach SVHC Compliant: Yes; RoHS Compliant: Yes; ComponentLink1URL: https://datasheet.ciiva.com:443/pdfs/VipMasterIC/IC/LITE/LITE-S-A0009182577/LITE-S-A0009182577-1.pdf?src-supplier=IHS+Markit; ComponentLink1Description: https://datasheet.ciiva.com:443/pdfs/VipMasterIC/IC/LITE/LITE-S-A0009182577/LITE-S-A0009182577-1.pdf?src-supplier=IHS+Markit; Supplier 1: Digikey; Supplier Part Number 1: 160-1647-1-ND
footprint Blue_LED
pins: 1 C, 2 A

## Ferrite_Bead
designator FB?, comment BLM18PG221SN1D
Ferrite Chip, 1 Function(s), 1.4A, 2 Pin(s), BLM18PG221SN1D; Manufacturer: Murata; DC Resistance-Max: 100mR; Clock Frequency: 100MHz; Channels: 1; Output Impedance: 220R; Supplier: Digikey; Supplier Part Number: 490-5221-1-ND; Manufacturer Part Number: BLM18PG221SN1D; RoHS: Yes; Category: Ferrite Beads and Chips; Stock: 159892; Pricing: 1=0.1, 10=0.078, 25=0.0712, 50=0.064, 100=0.0469, 250=0.03412, 500=0.03128, 1000=0.02701 (USD); Mounting Technology: Surface Mount; Material: Ferrite; Case Code: 0603; Terminal Finish: Tin; Min Operating Temperature: -55°C; Max Operating Temperature: 125°C; JESD-609 Code: e3; Construction: Chip Bead; Filter Type: FERRITE CHIP; Min Frequency: 100MHz; Packaging: Tape and Reel; Current Rating: 1.4A; Length: 1.6mm; Width: 0.8mm; Height: 0.8mm; Reach SVHC Compliant: Yes; RoHS Compliant: Yes; ComponentLink1URL: https://datasheet.ciiva.com:443/pdfs/VipMasterIC/IC/MURE/MURE-S-A0008515861/MURE-S-A0008515861-1.pdf?src-supplier=IHS+Markit; ComponentLink1Description: https://datasheet.ciiva.com:443/pdfs/VipMasterIC/IC/MURE/MURE-S-A0008515861/MURE-S-A0008515861-1.pdf?src-supplier=IHS+Markit; ComponentLink2URL: https://datasheet.ciiva.com/19458/1845030-19458417.pdf?src-supplier=Jameco; ComponentLink2Description: https://datasheet.ciiva.com/19458/1845030-19458417.pdf?src-supplier=Jameco; ComponentLink3URL: https://datasheet.ciiva.com/11800/0900766b81275ca5-11800851.pdf?src-supplier=Rs; ComponentLink3Description: https://datasheet.ciiva.com/11800/0900766b81275ca5-11800851.pdf?src-supplier=Rs; ComponentLink4URL: https://datasheet.ciiva.com/29347/442391-da-01-en-chip-drossel-0603-220r-1400ma-1-6x0-8mm-29347986.pdf?src-supplier=Conrad; ComponentLink4Description: https://datasheet.ciiva.com/29347/442391-da-01-en-chip-drossel-0603-220r-1400ma-1-6x0-8mm-29347986.pdf?src-supplier=Conrad; ComponentLink5URL: https://datasheet.ciiva.com/1012/l0110s0100blm18p-1012161.pdf?src-supplier=Digikey; ComponentLink5Description: https://datasheet.ciiva.com/1012/l0110s0100blm18p-1012161.pdf?src-supplier=Digikey; ComponentLink6URL: https://datasheet.ciiva.com/1012/l0110s0100blm18p-1012162.pdf?src-supplier=Digikey; ComponentLink6Description: https://datasheet.ciiva.com/1012/l0110s0100blm18p-1012162.pdf?src-supplier=Digikey; ComponentLink7URL: https://datasheet.ciiva.com/1012/l0110s0100blm18p-1012163.pdf?src-supplier=Digikey; ComponentLink7Description: https://datasheet.ciiva.com/1012/l0110s0100blm18p-1012163.pdf?src-supplier=Digikey; ComponentLink8URL: https://datasheet.ciiva.com/3081/l0110s0100blm18p-3081633.pdf?src-supplier=Avnet; ComponentLink8Description: https://datasheet.ciiva.com/3081/l0110s0100blm18p-3081633.pdf?src-supplier=Avnet; ComponentLink9URL: https://datasheet.ciiva.com/8021/5148-8021482.pdf?src-supplier=Element14; ComponentLink9Description: https://datasheet.ciiva.com/8021/5148-8021482.pdf?src-supplier=Element14; ComponentLink10URL: https://datasheet.ciiva.com/8021/5148-8021479.pdf?src-supplier=Element14; ComponentLink10Description: https://datasheet.ciiva.com/8021/5148-8021479.pdf?src-supplier=Element14; ComponentLink11URL: https://datasheet.ciiva.com/14122/blm-series-eng-tds-14122909.pdf?src-supplier=Distrelec; ComponentLink11Description: https://datasheet.ciiva.com/14122/blm-series-eng-tds-14122909.pdf?src-supplier=Distrelec; ComponentLink12URL: https://datasheet.ciiva.com/16205/l0110s0100blm18p-16205422.pdf?src-supplier=Future+Electronics; ComponentLink12Description: https://datasheet.ciiva.com/16205/l0110s0100blm18p-16205422.pdf?src-supplier=Future+Electronics; Supplier 1: Digikey; Supplier Part Number 1: 490-5221-1-ND
footprint Ferrite_Bead
pins: 1, 2

## Green_LED
designator D?, comment Green
Single Color LED, Yellow Green, 1.1mm, VLMG1300-GS08; Manufacturer: Vishay Semiconductors; Color: Green,Yellow; Shape: Rectangular; Additional Feature: HIGH RELIABILITY; Forward Current: 30mA; Forward Voltage: 2.4V; Luminous Intensity-Nom: 35mcd; Channels: 1; Optoelectronic Device Type: DUAL COLOR LED; Reverse Voltage-Max: 5V; Viewing Angle: 130°; Overall Height: 0.8mm; Supplier: Digikey; Supplier Part Number: VLMG1300-GS08CT-ND; Manufacturer Part Number: VLMG1300-GS08; RoHS: Yes; Category: LEDs; Stock: 12007; Pricing: 1=0.3, 10=0.237, 100=0.1065, 500=0.09616, 1000=0.07898 (USD); Mounting Technology: Surface Mount; Pins: 2; Color@wavelength: Green; Min Operating Temperature: -35°C; Max Operating Temperature: 85°C; Packaging: Tape and Reel; Size: 1.1mm; Terminal Pitch: 1.5mm; Reach SVHC Compliant: Yes; RoHS Compliant: Yes; ComponentLink1URL: https://datasheet.ciiva.com:443/pdfs/VipMasterIC/IC/VISH/VISH-S-A0004564149/VISH-S-A0004564149-1.pdf?src-supplier=IHS+Markit; ComponentLink1Description: https://datasheet.ciiva.com:443/pdfs/VipMasterIC/IC/VISH/VISH-S-A0004564149/VISH-S-A0004564149-1.pdf?src-supplier=IHS+Markit; ComponentLink2URL: https://datasheet.ciiva.com/8028/vlmo1300-8028023.pdf?src-supplier=Element14; ComponentLink2Description: https://datasheet.ciiva.com/8028/vlmo1300-8028023.pdf?src-supplier=Element14; ComponentLink3URL: https://datasheet.ciiva.com/2114/vlmo1300-2114971.pdf?src-supplier=Digikey; ComponentLink3Description: https://datasheet.ciiva.com/2114/vlmo1300-2114971.pdf?src-supplier=Digikey; ComponentLink4URL: https://datasheet.ciiva.com/2114/vlmo1300-2114972.pdf?src-supplier=Digikey; ComponentLink4Description: https://datasheet.ciiva.com/2114/vlmo1300-2114972.pdf?src-supplier=Digikey; ComponentLink5URL: https://datasheet.ciiva.com/2114/vlmo1300-2114973.pdf?src-supplier=Digikey; ComponentLink5Description: https://datasheet.ciiva.com/2114/vlmo1300-2114973.pdf?src-supplier=Digikey; ComponentLink6URL: https://datasheet.ciiva.com/9333/vlmo1300-9333390.pdf?src-supplier=Avnet; ComponentLink6Description: https://datasheet.ciiva.com/9333/vlmo1300-9333390.pdf?src-supplier=Avnet; ComponentLink7URL: https://datasheet.ciiva.com/26322/vlmo1300-26322139.pdf?src-supplier=Element14; ComponentLink7Description: https://datasheet.ciiva.com/26322/vlmo1300-26322139.pdf?src-supplier=Element14; ComponentLink8URL: https://datasheet.ciiva.com/26322/vlmo1300-26322140.pdf?src-supplier=Element14; ComponentLink8Description: https://datasheet.ciiva.com/26322/vlmo1300-26322140.pdf?src-supplier=Element14; Supplier 1: Digikey; Supplier Part Number 1: VLMG1300-GS08CT-ND
footprint Green_LED
pins: 1 C, 2 A

## IMU
designator U?, comment LSM6DSR
Accelerometer, LSM6DSR; Manufacturer: STMicroelectronics; Manufacturer Part Number: LSM6DSRTR; Supplier: Digikey; Supplier Part Number: 497-19479-1-ND; RoHS: Yes; Category: Inertial Measurement Units (IMUs); Stock: 14511; Pricing: 1=5.91, 10=4.431, 25=3.9392, 50=3.742, 100=3.6436, 500=3.05272, 1000=2.85578 (USD); RoHS Compliant: Yes; ComponentLink1URL: https://datasheet.ciiva.com:443/pdfs/VipMasterIC/IC/SGST/SGST-S-A0008001389/SGST-S-A0008001389-1.pdf?src-supplier=IHS+Markit; ComponentLink1Description: https://datasheet.ciiva.com:443/pdfs/VipMasterIC/IC/SGST/SGST-S-A0008001389/SGST-S-A0008001389-1.pdf?src-supplier=IHS+Markit; ComponentLink2URL: https://www.st.com/resource/en/datasheet/lsm6dsr.pdf?src-supplier=Digikey; ComponentLink2Description: https://www.st.com/resource/en/datasheet/lsm6dsr.pdf?src-supplier=Digikey; Supplier 1: Digikey; Supplier Part Number 1: 497-19479-1-ND
footprint IMU
pins: 1 SDO/SA0 (out), 2 SDx (io), 3 SCx (in), 4 INT1 (in), 5 VDDIO (power), 6 GND (power), 7 GND (power), 8 VDD (power), 9 INT2 (in), 10 OCS Aux, 11 SDO Aux (out), 12 CS (in), 13 SCL (in), 14 SDA (io)

## nRF_Transceiver
designator U?, comment NRF24L01P-T
Telecom IC, PQCC20, NRF24L01P-T; Manufacturer: Nordic Semiconductor; Package Body Material: Plastic; Nominal Supply Voltage: 3V; Qualification Status: Not Qualified; Supplier: Digikey; Supplier Part Number: 4823-NRF24L01P-T-ND; Manufacturer Part Number: NRF24L01P-T; RoHS: Yes; Category: RF Receivers, Transceivers; Stock: 12641; Pricing: 1=2.16, 100=1.86, 500=1.8 (USD); Case/Package: QCCN; Pins: 20; Package Shape: Square; Min Operating Temperature: -40°C; Max Operating Temperature: 85°C; Package Style: CHIP CARRIERMeter; Surface Mount: Yes; Terminal Form: No Lead; Terminal Position: QUAD; Power Supplies: 3V; Terminal Pitch: 0.5mm; Temperature Grade: INDUSTRIAL; Reach SVHC Compliant: Yes; RoHS Compliant: Yes; ComponentLink1URL: https://datasheet.ciiva.com:443/pdfs/VipMasterIC/IC/NRSA/NRSAS00057/NRSAS00057-1.pdf?src-supplier=IHS+Markit; ComponentLink1Description: https://datasheet.ciiva.com:443/pdfs/VipMasterIC/IC/NRSA/NRSAS00057/NRSAS00057-1.pdf?src-supplier=IHS+Markit; ComponentLink2URL: https://www.distrelec.biz/Web/Downloads/2_/en/nordic-nrf24l01p_tds.pdf?mime=application%2Fpdf&src-supplier=Distrelec; ComponentLink2Description: https://www.distrelec.biz/Web/Downloads/2_/en/nordic-nrf24l01p_tds.pdf?mime=application%2Fpdf&src-supplier=Distrelec; ComponentLink3URL: http://www.mouser.com/ds/2/297/nRF24L01P-224815.pdf?src-supplier=Mouser; ComponentLink3Description: http://www.mouser.com/ds/2/297/nRF24L01P-224815.pdf?src-supplier=Mouser; ComponentLink4URL: http://www.nordicsemi.com/eng/content/download/2726/34069/file/nRF24L01P_Product_Specification_1_0.pdf?src-supplier=Digikey; ComponentLink4Description: http://www.nordicsemi.com/eng/content/download/2726/34069/file/nRF24L01P_Product_Specification_1_0.pdf?src-supplier=Digikey; ComponentLink5URL: http://www.nordicsemi.com/eng/content/download/2726/34069/file/nRF24L01P_Product_Specification_1_0.pdf?src-supplier=Avnet; ComponentLink5Description: http://www.nordicsemi.com/eng/content/download/2726/34069/file/nRF24L01P_Product_Specification_1_0.pdf?src-supplier=Avnet; ComponentLink6URL: https://www.verical.com/server-webapp/html/getDatasheet?partID=368176&src-supplier=Verical; ComponentLink6Description: https://www.verical.com/server-webapp/html/getDatasheet?partID=368176&src-supplier=Verical; Supplier 1: Digikey; Supplier Part Number 1: 4823-NRF24L01P-T-ND
footprint nRF_Transceiver (QFN, 20-Leads, Body 4x4mm, Pitch 0.5mm, Thermal Pad 2.6x2.6mm, IPC High Density)
pins: 1 CE (in) "Chip Enable Activates RX or TX mode", 2 CSN (in) "SPI Chip Select", 3 SCK (in) "SPI Clock", 4 MOSI (in) "SPI Slave Data Input", 5 MISO (out) "SPI Slave Data Output, with tri-state option", 6 ~{IRQ} (out) "Maskable interrupt pin. Active low", 7 VDD (power) "Power Supply (+1.9V - +3.6V DC)", 8 VSS (power) "Ground (0V)", 9 XC2 "Crystal Pin 2", 10 XC1 "Crystal Pin 1", 11 VDD_PA (power) "Power Supply Output (+1.8V) for the internal nRF24L01+ Power Amplifier. Must be connected to ANT1 and ANT2 as shown in Figure 32.", 12 ANT1 "Antenna interface 1", 13 ANT2 "Antenna interface 2", 14 VSS (power) "Ground (0V)", 15 VDD (power) "Power Supply (+1.9V - +3.6V DC)", 16 IREF "Reference current. Connect a 22 kohm resistor to ground. See Figure 32.", 17 VSS (power) "Ground (0V)", 18 VDD (power) "Power Supply (+1.9V - +3.6V DC)", 19 DVDD (power) "Internal digital supply output for de-coupling purposes. See Figure 32.", 20 VSS (power) "Ground (0V)"